# EAGLE library part LMR14050 (library Bauteile)
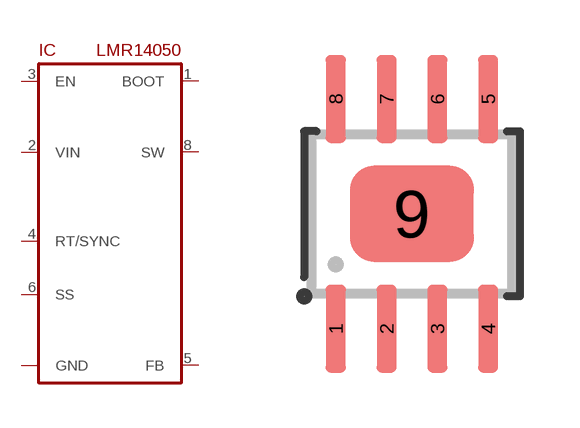
[diagram p174: symbol with the pads of HSOIC-8; footprint HSOIC-8]

Designator prefix IC

## LMR14050  [HSOIC-8]
1  BOOT
2  VIN
3  EN
4  RT/SYNC
5  FB
6  SS
7  GND
8  SW
9  GND

## Footprint HSOIC-8 (pad centres in mm)
smd 0.5 x 2.2: 1 -1.905,-2.875; 2 -0.635,-2.875; 3 0.635,-2.875; 4 1.905,-2.875; 5 1.905,2.875; 6 0.635,2.875; 7 -0.635,2.875; 8 -1.905,2.875
smd 3.1 x 2.4: 9 0,0